# Altium footprint library MEGA.PcbLib: 237 footprints (part 4 of 15)
Each footprint in its own frame and in the unit in brackets; x right, y up, seen from the top. Pads: shape width x height; smd on the part's side, far side on the other; paste and mask are expansions set on the pad; w line width, h text height; cw(c..) or ccw(c..) is an arc to the next point about the centre after c.
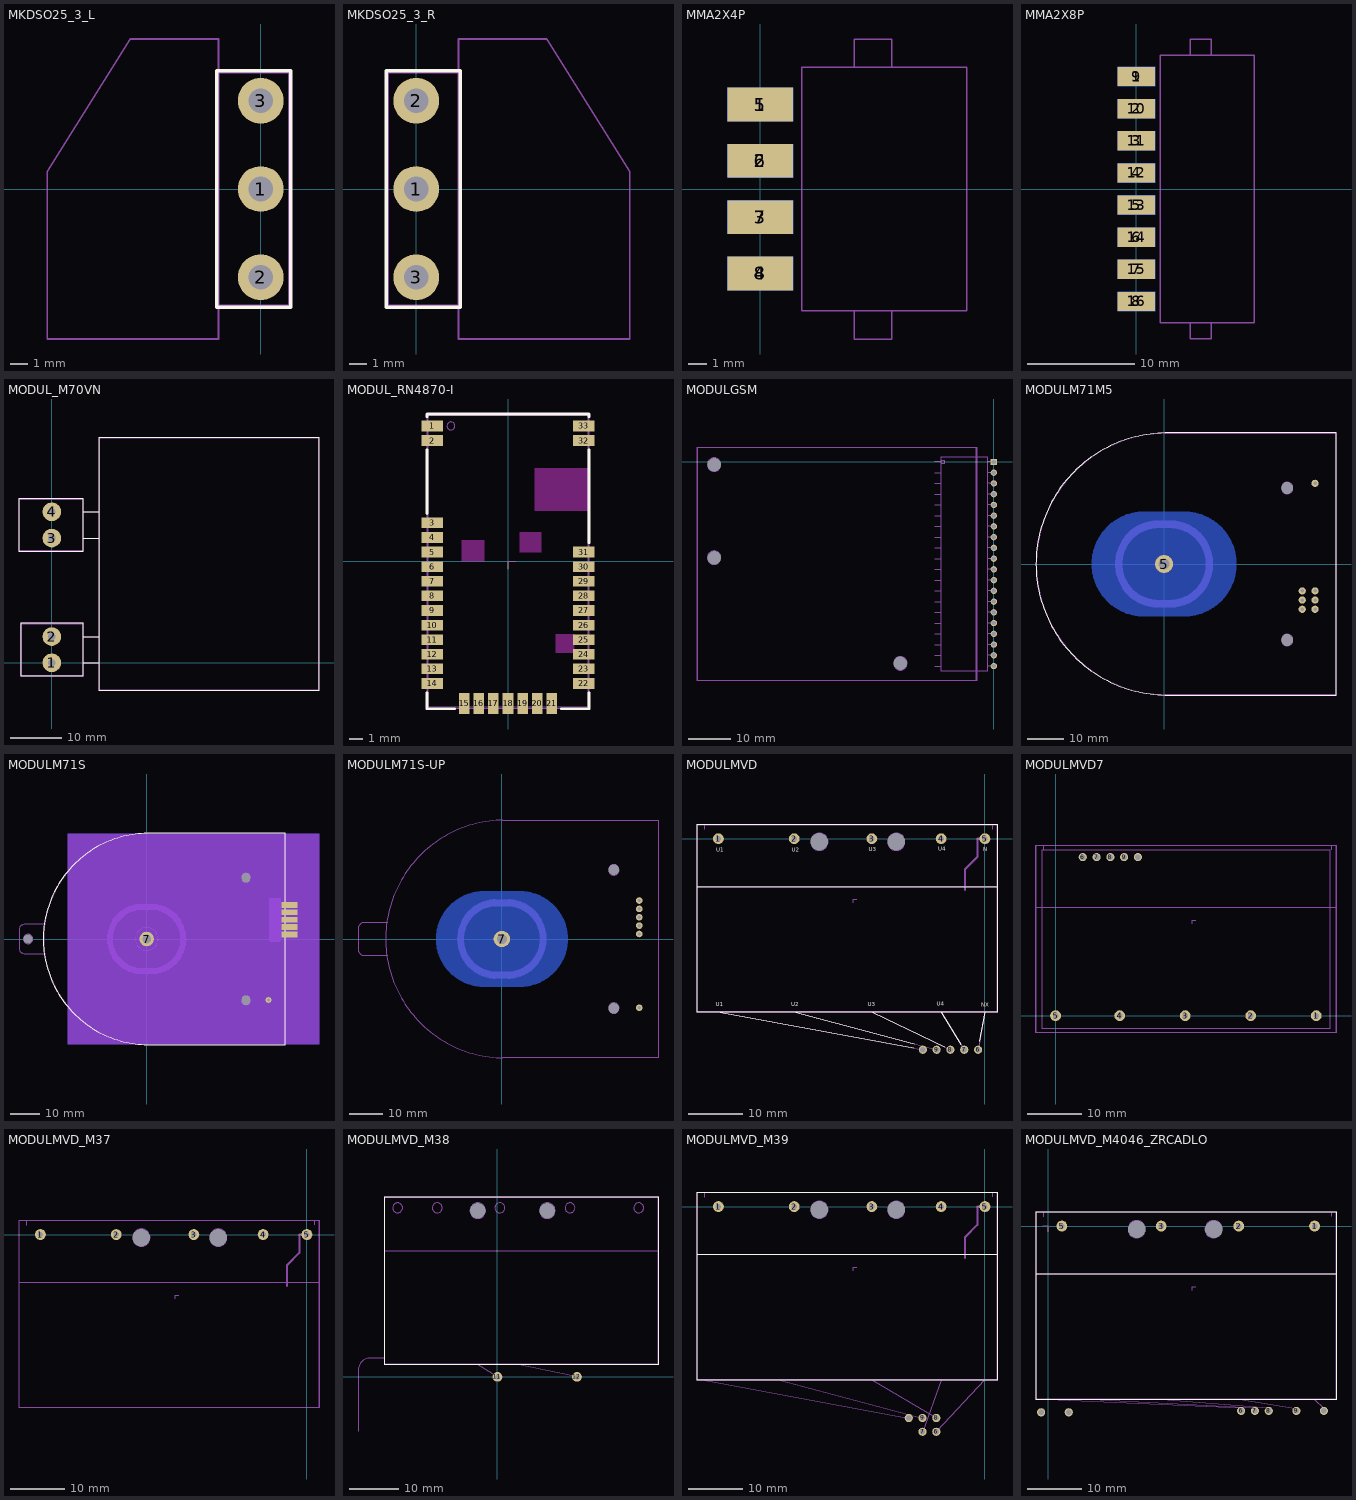
[diagram p3: the footprints below, top view; thin cyan lines are the x and y axes]

## MKDSO25_3_L [mm]
pads (3):
  round 2.6 hole 1.4 mask+0.05: 1(0,0) 2(0,-5) 3(0,5)
Top Overlay:
  lines w0.2: -2.5,-6.7 1.7,-6.7 1.7,6.7 -2.5,6.7 -2.5,-6.7
Mechanical 15:
  circle w0.1: c0,-5 r0.7
  circle w0.1: c0,0 r0.7
  circle w0.1: c0,5 r0.7
  lines w0.1: -2.4,-6.6 -2.4,6.6 ; -2.4,-6.6 1.6,-6.6 1.6,6.6 -2.4,6.6 ; -2.4,-6.6 -2.4,-8.5 -12.1,-8.5 -12.1,1 -7.4,8.5 -2.4,8.5 -2.4,6.6
Mechanical 16:
  circle w0.1: c0,-5 r0.7
  circle w0.1: c0,0 r0.7
  circle w0.1: c0,5 r0.7
Mechanical 20:
  lines w0.1: -2.5,-6.7 1.7,-6.7 1.7,6.7 -2.5,6.7 -2.5,-6.7

## MKDSO25_3_R [mm]
pads (3):
  round 2.6 hole 1.4 mask+0.05: 1(0,0) 2(0,5) 3(0,-5)
Top Overlay:
  lines w0.2: -1.7,-6.7 2.5,-6.7 2.5,6.7 -1.7,6.7 -1.7,-6.7
Mechanical 15:
  circle w0.1: c0,-5 r0.7
  circle w0.1: c0,0 r0.7
  circle w0.1: c0,5 r0.7
  lines w0.1: 2.4,-6.6 2.4,6.6 ; 2.4,-6.6 -1.6,-6.6 -1.6,6.6 2.4,6.6 ; 2.4,-6.6 2.4,-8.5 12.1,-8.5 12.1,1 7.4,8.5 2.4,8.5 2.4,6.6
Mechanical 16:
  circle w0.1: c0,-5 r0.7
  circle w0.1: c0,0 r0.7
  circle w0.1: c0,5 r0.7
Multi-Layer:
  text "Value" at 4.265,-2.325 h0.75
Mechanical 20:
  lines w0.1: -1.7,-6.7 2.5,-6.7 2.5,6.7 -1.7,6.7 -1.7,-6.7

## MMA2X4P [mm]
pads (8):
  rect 3.5x1.8 smd mask+0.05: 1(0,4.5) 2(0,1.5) 3(0,-1.5) 4(0,-4.5)
  rect 3.5x1.8 smd far side mask+0.05: 5(0,4.5) 6(0,1.5) 7(0,-1.5) 8(0,-4.5)
Mechanical 15:
  lines w0.01: 5,-6.5 5,-8 7,-8 7,-6.5 ; 5,6.5 5,8 7,8 7,6.5 ; 2.2,-6.5 11,-6.5 11,6.5 2.2,6.5 2.2,-6.5
  text "1" at 2.956,4.12 h0.75
  text "4" at 2.777,-4.88 h0.75
Mechanical 16:
  lines w0.01: 5,-6.5 5,-8 7,-8 7,-6.5 ; 5,6.5 5,8 7,8 7,6.5 ; 2.2,-6.5 11,-6.5 11,6.5 2.2,6.5 2.2,-6.5
  text "8" at 4.105,-4.88 h0.75
  text "5" at 3.905,4.12 h0.75
Multi-Layer:
  text "Value" at 4.965,-1.78 h0.75

## MMA2X8P [mm]
pads (16):
  rect 3.5x1.8 smd mask+0.05: 1(0,10.5) 2(0,7.5) 3(0,4.5) 4(0,1.5) 5(0,-1.5) 6(0,-4.5) 7(0,-7.5) 8(0,-10.5)
  rect 3.5x1.8 smd far side mask+0.05: 9(0,10.5) 10(0,7.5) 11(0,4.5) 12(0,1.5) 13(0,-1.5) 14(0,-4.5) 15(0,-7.5) 16(0,-10.5)
Mechanical 15:
  lines w0.01: 5,-12.5 5,-14 7,-14 7,-12.5 ; 5,12.5 5,14 7,14 7,12.5 ; 2.2,-12.5 11,-12.5 11,12.5 2.2,12.5 2.2,-12.5
  text "8" at 3.095,-10.78 h0.75
  text "1" at 3.056,10.22 h0.75
Mechanical 16:
  lines w0.01: 5,-12.5 5,-14 7,-14 7,-12.5 ; 5,12.5 5,14 7,14 7,12.5 ; 2.2,-12.5 11,-12.5 11,12.5 2.2,12.5 2.2,-12.5
  text "16" at 4.362,-10.78 h0.75
  text "9" at 3.987,10.22 h0.75

## MODUL_M70VN [mm]
pads (4):
  round 3.6 hole 1.5 mask+0.05: 1(0,0) 2(0,5.08) 3(0,24.13) 4(0,29.21)
Top Overlay:
  lines w0.2: 6.032,0 9.08,0 ; 6.032,5.08 9.08,5.08 ; 6.032,24.13 9.08,24.13 ; 6.032,29.21 9.08,29.21 ; -6.35,21.59 6.032,21.59 6.032,31.75 -6.35,31.75 -6.35,21.59 ; -6.032,-2.54 6.032,-2.54 6.032,7.62 -6.032,7.62 -6.032,-2.54 ; 9.08,-5.271 51.689,-5.271 51.689,43.497 9.08,43.497 9.08,-5.271
Mechanical 15:
  lines w0.1: 5.969,0 9.144,0 ; 5.969,5.08 9.144,5.08 ; 5.969,24.13 9.144,24.13 ; 5.969,29.21 9.144,29.21 ; -6.286,21.653 5.969,21.653 5.969,31.686 -6.286,31.686 -6.286,21.653 ; -5.969,-2.476 5.969,-2.476 5.969,7.556 -5.969,7.556 -5.969,-2.476 ; 9.144,-5.207 51.625,-5.207 51.625,43.434 9.144,43.434 9.144,-5.207
Mechanical 20:
  lines w0.1: -6.032,-2.54 6.032,-2.54 6.032,7.62 -6.032,7.62 -6.032,-2.54

## MODUL_RN4870-I [mm]
pads (33):
  rect 1.6x0.8 smd paste-0.12 mask+0.05: 1(-5.7,10.2) 2(-5.7,9.1) 3(-5.7,2.9) 4(-5.7,1.8) 5(-5.7,0.7) 6(-5.7,-0.4) 7(-5.7,-1.5) 8(-5.7,-2.6) 9(-5.7,-3.7) 10(-5.7,-4.8) 11(-5.7,-5.9) 12(-5.7,-7) 13(-5.7,-8.1) 14(-5.7,-9.2) 22(5.7,-9.2) 23(5.7,-8.1) 24(5.7,-7) 25(5.7,-5.9) 26(5.7,-4.8) 27(5.7,-3.7) 28(5.7,-2.6) 29(5.7,-1.5) 30(5.7,-0.4) 31(5.7,0.7) 32(5.7,9.1) 33(5.7,10.2)
  rect 0.8x1.6 smd paste-0.12 mask+0.05: 15(-3.3,-10.7) 16(-2.2,-10.7) 17(-1.1,-10.7) 18(0,-10.7) 19(1.1,-10.7) 20(2.2,-10.7) 21(3.3,-10.7)
L1-Top Layer keep-out:
  region: -3.5,1.6 -1.8,1.6 -1.8,0 -3.5,0
  region: 2,7 6,7 6,3.8 2,3.8
  region: 0.9,2.2 2.5,2.2 2.5,0.7 0.9,0.7
  region: 3.6,-5.5 5,-5.5 5,-6.9 3.6,-6.9
Top Overlay:
  lines w0.2: -6.1,-9.9 -6.1,-11.1 -4,-11.1 ; -6.1,3.6 -6.1,8.4 ; -6.1,10.9 -6.1,11.1 6.1,11.1 6.1,10.9 ; 4,-11.1 6.1,-11.1 6.1,-9.9 ; 6.1,1.4 6.1,8.4
Mechanical 15:
  circle w0.01: c-4.3,10.2 r0.3
  lines w0.01: -6,-11 6,-11 6,11 -6,11 -6,-11
Multi-Layer:
  text "Value" at -1.165,2.335 h0.75
Mechanical 19:
  lines w0.01: 0,-0.6 0,0 0.635,0
Mechanical 20:
  lines w0.01: -6.1,-11.1 6.1,-11.1 6.1,11.1 -6.1,11.1 -6.1,-11.1

## MODULGSM [mm]
height 9.5
pads (23):
  rect 1.5x1.5 hole 1 mask+0.1: 1(0,0)
  round 1.5 hole 1 mask+0.1: 2(0,-2.54) 3(0,-5.08) 4(0,-7.62) 5(0,-10.16) 6(0,-12.7) 7(0,-15.24) 8(0,-17.78) 9(0,-20.32) 10(0,-22.86) 11(0,-25.4) 12(0,-27.94) 13(0,-30.48) 14(0,-33.02) 15(0,-35.56) 16(0,-38.1) 17(0,-40.64) 18(0,-43.18) 19(0,-45.72) 20(0,-48.26)
  round 0 hole 3.2 unplated: HL1(-66.104,-0.626) HL2(-66.104,-22.625) HL3(-22.104,-47.626)
Mechanical 15:
  circle w0.1: c-66.104,-0.626 r1.6
  circle w0.1: c-66.104,-22.625 r1.6
  circle w0.1: c-22.104,-47.626 r1.6
  lines w0.1: -13.97,-48.26 -12.383,-48.26 ; -13.97,-45.72 -12.383,-45.72 ; -13.97,-43.18 -12.383,-43.18 ; -13.97,-40.64 -12.383,-40.64 ; -13.97,-38.1 -12.383,-38.1 ; -13.97,-35.56 -12.383,-35.56 ; -13.97,-33.02 -12.383,-33.02 ; -13.97,-30.48 -12.383,-30.48 ; -13.97,-27.94 -12.383,-27.94 ; -13.97,-25.4 -12.383,-25.4 ; -13.97,-22.86 -12.383,-22.86 ; -13.97,-20.32 -12.383,-20.32 ; -13.97,-17.78 -12.383,-17.78 ; -13.97,-15.24 -12.383,-15.24 ; -13.97,-12.7 -12.383,-12.7 ; -13.97,-10.16 -12.383,-10.16 ; -13.97,-7.62 -12.383,-7.62 ; -13.97,-5.08 -12.383,-5.08 ; -13.97,-2.54 -12.383,-2.54 ; -13.97,0 -12.383,0 ; -12.383,-0.381 -11.747,-0.381 -11.747,0.381 -12.383,0.381 ; -1.587,-48.26 0,-48.26 ; -1.587,-45.72 0,-45.72 ; -1.587,-43.18 0,-43.18 ; -1.587,-40.64 0,-40.64 ; -1.587,-38.1 0,-38.1 ; -1.587,-35.56 0,-35.56 ; -1.587,-33.02 0,-33.02 ; -1.587,-30.48 0,-30.48 ; -1.587,-27.94 0,-27.94 ; -1.587,-25.4 0,-25.4 ; -1.587,-22.86 0,-22.86 ; -1.587,-20.32 0,-20.32 ; -1.587,-17.78 0,-17.78 ; -1.587,-15.24 0,-15.24 ; -1.587,-12.7 0,-12.7 ; -1.587,-10.16 0,-10.16 ; -1.587,-7.62 0,-7.62 ; -1.587,-5.08 0,-5.08 ; -1.587,-2.54 0,-2.54 ; -1.587,0 0,0 ; -4.127,-49.53 -4.127,1.27 ; -4.127,-49.53 -12.383,-49.53 -12.383,1.27 -4.127,1.27 ; -4.127,-49.53 -1.587,-49.53 -1.587,1.27 -4.127,1.27 ; -4.127,-49.53 -4.127,1.27 ; -70.104,-51.625 -4.104,-51.625 -4.104,3.374 -70.104,3.374 -70.104,-51.625
Mechanical 16:
  circle w0.1: c-66.104,-0.626 r1.6
  circle w0.1: c-66.104,-22.625 r1.6
  circle w0.1: c-22.104,-47.626 r1.6
Mechanical 20:
  lines w0.1: -70.168,-51.689 -4.064,-51.689 -4.064,3.429 -70.168,3.429 -70.168,-51.689

## MODULM71M5 [mm]
pads (10):
  round 2 hole 1 mask+0.05: 1(41.719,22.288) 2(38.163,-7.429) 3(38.163,-9.97) 4(38.163,-12.509) 21(41.719,-7.429) 31(41.719,-9.97) 41(41.719,-12.509)
  round 5 / inner round 3 / far side round 5 hole 3: 5(0,0)
  round 0 hole 3.2 unplated: HL1(34,21) HL2(34,-21)
L2-Botom Layer:
  region: 229 vertices and 0 holes, not listed, extent -20.001,-14.501 20.001,14.501
Top Overlay:
  lines w0.2: 0.298,-36.2 cw(c0.803,0) 0.298,36.2 ; 0.3,-36.2 47.5,-36.2 47.5,36.2 0.3,36.2
Top Solder:
  drawing of 1 lines, arcs and shapes, not listed
Bottom Solder:
  drawing of 1 lines, arcs and shapes, not listed
Mechanical 15:
  circle w0.1: c34,21 r1.6
  circle w0.1: c34,-21 r1.6
  lines w0.1: -2.009,-11.9 cw(c-1.593,0) -1.988,11.9 ; -2,-11.9 2,-11.9 ; -2,11.9 2,11.9 ; 0.3,-36.1 47.4,-36.1 47.4,36.1 0.3,36.1 ; 0.304,-36.1 cw(c0.808,0) 0.304,36.1 ; 1.988,-11.9 ccw(c1.593,0) 2.009,11.9
Mechanical 16:
  circle w0.1: c34,21 r1.6
  circle w0.1: c34,-21 r1.6
  lines w0.1: -2.009,-11.9 cw(c-1.593,0) -1.988,11.9 ; -2,-11.9 2,-11.9 ; -2,11.9 2,11.9 ; 1.988,-11.9 ccw(c1.593,0) 2.009,11.9
  lines w2: -2.011,10.9 ccw(c-1.592,0) -1.992,-10.9 ; -2,-10.9 2,-10.9 ; -2,10.9 2,10.9 ; 1.993,10.9 cw(c1.593,0) 2.012,-10.9
Mechanical 19:
  lines w0.1: -1.016,0 0,0 0,-1.016

## MODULM71S [mm]
pads (10):
  round 2 hole 1 mask+0.05: 1(41.719,-20.892)
  rect 5.5x2 smd mask+0.05: 2(48.959,1.524) 3(48.959,4.064) 4(48.959,6.604) 5(48.959,9.144) 6(48.959,11.684)
  round 5 / inner round 3 / far side round 5 hole 3: 7(0,0)
  round 0 hole 3.2 unplated: HL1(34,21) HL2(34,-21) HL3(-40.6,0)
L1-Top Layer keep-out:
  region: -25,23 25,23 25,-23 -25,-23
L2-Botom Layer:
  region: 229 vertices and 0 holes, not listed, extent -20.001,-14.501 20.001,14.501
L2-Botom Layer keep-out:
  region: -27,36 59,36 59,-36 -27,-36
Top Overlay:
  lines w0.2: 0.298,-36.2 cw(c0.803,0) 0.298,36.2 ; 0.3,-36.2 47.5,-36.2 47.5,36.2 0.3,36.2
Top Solder:
  drawing of 7 lines, arcs and shapes, not listed
Bottom Solder:
  drawing of 1 lines, arcs and shapes, not listed
Mechanical 15:
  circle w0.1: c34,21 r1.6
  circle w0.1: c34,-21 r1.6
  circle w0.1: c-40.6,0 r1.6
  lines w0.1: -43.7,-3 -43.7,3 ; -43.7,-2.999 ccw(c-41.75,-3.05) -41.702,-5 ; -43.7,3.002 cw(c-41.75,3.05) -41.699,5 ; -41.7,-5 -34.7,-5 ; -41.7,5 -34.7,5 ; -2.009,-11.9 cw(c-1.593,0) -1.988,11.9 ; -2,-11.9 2,-11.9 ; -2,11.9 2,11.9 ; 0.3,-36.1 47.4,-36.1 47.4,36.1 0.3,36.1 ; 0.304,-36.1 cw(c0.808,0) 0.304,36.1 ; 1.988,-11.9 ccw(c1.593,0) 2.009,11.9
Mechanical 16:
  circle w0.1: c34,21 r1.6
  circle w0.1: c34,-21 r1.6
  circle w0.1: c-40.6,0 r1.6
  lines w0.1: -2.009,-11.9 cw(c-1.593,0) -1.988,11.9 ; -2,-11.9 2,-11.9 ; -2,11.9 2,11.9 ; 1.988,-11.9 ccw(c1.593,0) 2.009,11.9
  lines w1.2: 43.567,-0.396 43.567,13.604 ; 44.467,-0.396 44.467,13.604 ; 42.567,-0.396 45.467,-0.396 45.467,13.604 42.567,13.604 42.567,-0.396
  lines w2: -2.011,10.9 ccw(c-1.592,0) -1.992,-10.9 ; -2,-10.9 2,-10.9 ; -2,10.9 2,10.9 ; 1.993,10.9 cw(c1.593,0) 2.012,-10.9
Mechanical 19:
  lines w0.1: -1.016,0 0,0 0,-1.016
Mechanical 20:
  circle w0.1: c0,0 r3.9

## MODULM71S-UP [mm]
pads (9):
  round 2 hole 1 mask+0.05: 1(41.719,-20.892) 2(41.719,1.524) 3(41.719,4.064) 4(41.719,6.604) 5(41.719,9.144) 6(41.719,11.684)
  round 5 / inner round 3 / far side round 5 hole 3: 7(0,0)
  round 0 hole 3.2 unplated: HL1(34,21) HL2(34,-21)
L2-Botom Layer:
  region: 229 vertices and 0 holes, not listed, extent -20.001,-14.501 20.001,14.501
Top Solder:
  drawing of 1 lines, arcs and shapes, not listed
Bottom Solder:
  drawing of 1 lines, arcs and shapes, not listed
Mechanical 15:
  circle w0.1: c34,21 r1.6
  circle w0.1: c34,-21 r1.6
  lines w0.1: -43.7,-3 -43.7,3 ; -43.7,-2.999 ccw(c-41.75,-3.05) -41.702,-5 ; -43.7,3.002 cw(c-41.75,3.05) -41.699,5 ; -41.7,-5 -34.7,-5 ; -41.7,5 -34.7,5 ; -2.009,-11.9 cw(c-1.593,0) -1.988,11.9 ; -2,-11.9 2,-11.9 ; -2,11.9 2,11.9 ; 0.3,-36.1 47.4,-36.1 47.4,36.1 0.3,36.1 ; 0.304,-36.1 cw(c0.808,0) 0.304,36.1 ; 1.988,-11.9 ccw(c1.593,0) 2.009,11.9
Mechanical 16:
  circle w0.1: c34,21 r1.6
  circle w0.1: c34,-21 r1.6
  lines w0.1: -2.009,-11.9 cw(c-1.593,0) -1.988,11.9 ; -2,-11.9 2,-11.9 ; -2,11.9 2,11.9 ; 1.988,-11.9 ccw(c1.593,0) 2.009,11.9
  lines w2: -2.011,10.9 ccw(c-1.592,0) -1.992,-10.9 ; -2,-10.9 2,-10.9 ; -2,10.9 2,10.9 ; 1.993,10.9 cw(c1.593,0) 2.012,-10.9
Multi-Layer:
  text "Value" at 23.865,-2.225 h0.75
Mechanical 19:
  lines w0.1: -1.016,0 0,0 0,-1.016

## MODULMVD [mm]
pads (12):
  round 2 hole 1 mask+0.05: 1(-49.085,0) 2(-35.115,0) 3(-20.828,0) 4(-8.064,0) 5(0,0)
  round 1.5 hole 1 mask+0.05: 6(-1.27,-38.862) 7(-3.81,-38.862) 8(-6.35,-38.862) 9(-8.89,-38.862) 10(-11.43,-38.862)
  round 0 hole 3.2 unplated: HL1(-16.319,-0.572) HL2(-30.48,-0.572)
Top Overlay:
  lines w0.2: -53.023,-8.89 2.222,-8.89 ; -48.704,-31.941 -13.144,-38.544 ; -34.861,-31.941 -13.018,-37.782 ; -20.701,-31.941 -7.366,-38.354 ; -8.001,-31.941 -4.445,-37.846 ; -1.016,-37.338 0,-31.941 ; -53.023,-31.941 2.222,-31.941 2.222,2.667 -53.023,2.667 -53.023,-31.941
  text "N" at -0.286,-2.316 h0.75
  text "U4" at -8.622,-2.253 h0.75
  text "U3" at -21.368,-2.316 h0.75
  text "U2" at -35.528,-2.38 h0.75
  text "U1" at -49.465,-2.38 h0.75
  text "U1" at -49.565,-30.891 h0.75
  text "U2" at -35.692,-30.828 h0.75
  text "U3" at -21.595,-30.828 h0.75
  text "U4" at -8.849,-30.764 h0.75
  text "NX" at -0.64,-30.955 h0.75
Mechanical 15:
  circle w0.1: c-16.319,-0.572 r1.6
  circle w0.1: c-30.48,-0.572 r1.6
  lines w0.1: -52.959,-8.89 2.159,-8.89 ; -49.085,-31.877 -11.43,-38.862 ; -35.115,-31.877 -8.89,-38.862 ; -20.828,-31.877 -6.35,-38.862 ; -8.064,-31.877 -3.81,-38.862 ; -1.27,-38.862 0,-31.877 ; -52.959,-31.877 2.159,-31.877 2.159,2.603 -52.959,2.603 -52.959,-31.877
  text "U1" at -49.515,-2.139 h0.75
  text "N" at -0.236,-1.949 h0.75
  text "NX" at -0.59,-30.905 h0.75
  text "U4" at -8.799,-30.714 h0.75
  text "U4" at -8.672,-1.949 h0.75
  text "U3" at -21.418,-2.076 h0.75
  text "U3" at -21.545,-30.778 h0.75
  text "U2" at -35.642,-30.778 h0.75
  text "U2" at -35.578,-2.076 h0.75
  text "U1" at -49.515,-30.841 h0.75
Mechanical 16:
  circle w0.1: c-16.319,-0.572 r1.6
  circle w0.1: c-30.48,-0.572 r1.6
Multi-Layer:
  text "Value" at -25.492,-12.045 h0.75
Mechanical 19:
  lines w0.1: -51.689,1.714 -51.689,2.603 ; -24.257,-11.811 -24.257,-11.176 -23.622,-11.176 ; 1.333,1.778 1.333,2.603
  lines w0.4: -3.683,-9.461 -3.683,-5.651 -1.397,-3.365 -1.397,0 0,0
Mechanical 20:
  lines w0.1: -53.023,-31.941 2.222,-31.941 2.222,2.667 -53.023,2.667 -53.023,-31.941

## MODULMVD7 [mm]
pads (10):
  round 2 hole 1 mask+0.05: 1(48.006,0) 2(35.941,0) 3(23.876,0) 4(11.811,0) 5(0,0)
  round 1.5 hole 1 mask+0.05: 6(5.016,29.21) 7(7.556,29.21) 8(10.096,29.21) 9(12.636,29.21) 10(15.176,29.21)
Mechanical 15:
  lines w0.1: -3.535,19.866 51.583,19.866 ; -3.535,-3.121 51.583,-3.121 51.583,31.359 -3.535,31.359 -3.535,-3.121
  text "U1" at 47.678,1.435 h0.75
  text "N" at -0.201,1.628 h0.75
  text "NX" at 4.362,26.67 h0.75
  text "U4" at 6.919,26.67 h0.75
  text "U4" at 11.365,1.499 h0.75
  text "U3" at 23.449,1.563 h0.75
  text "U3" at 9.635,26.629 h0.75
  text "U2" at 12.17,26.589 h0.75
  text "U2" at 35.451,1.563 h0.75
  text "U1" at 14.947,26.629 h0.75
Multi-Layer:
  text "Value" at 23.932,16.71 h0.75
Mechanical 19:
  lines w0.1: -2.265,30.47 -2.265,31.359 ; 25.167,16.945 25.167,17.58 25.802,17.58 ; 50.758,30.534 50.758,31.359 ; -2.476,-2.413 50.524,-2.413 50.524,30.587 -2.476,30.587 -2.476,-2.413
Mechanical 20:
  lines w0.1: -3.598,-3.185 51.647,-3.185 51.647,31.423 -3.598,31.423 -3.598,-3.185

## MODULMVD_M37 [mm]
pads (7):
  round 2 hole 1 mask+0.05: 1(-49.085,0) 2(-35.115,0) 3(-20.828,0) 4(-8.064,0) 5(0,0)
  round 0 hole 3.2 unplated: HL1(-16.319,-0.572) HL2(-30.48,-0.572)
Mechanical 15:
  circle w0.1: c-16.319,-0.572 r1.6
  circle w0.1: c-30.48,-0.572 r1.6
  lines w0.1: -52.959,-8.89 2.159,-8.89 ; -52.959,-31.877 2.159,-31.877 2.159,2.603 -52.959,2.603 -52.959,-31.877
  text "U1" at -49.515,-2.139 h0.75
  text "N" at -0.236,-1.949 h0.75
  text "NX" at 0.497,-22.525 h0.75
  text "U4" at 0.479,-24.025 h0.75
  text "U4" at -8.672,-1.949 h0.75
  text "U3" at -21.418,-2.076 h0.75
  text "U3" at 0.397,-25.325 h0.75
  text "U2" at 0.397,-26.925 h0.75
  text "U2" at -35.578,-2.076 h0.75
  text "U1" at 0.557,-28.425 h0.75
  text "L" at -31.214,-31.025 h0.75
  text "SIT" at -26.062,-29.225 h0.75
  text "N" at -19.75,-31.025 h0.75
Mechanical 16:
  circle w0.1: c-16.319,-0.572 r1.6
  circle w0.1: c-30.48,-0.572 r1.6
Multi-Layer:
  text "Value" at -25.492,-12.045 h0.75
Mechanical 19:
  lines w0.1: -51.689,1.714 -51.689,2.603 ; -24.257,-11.811 -24.257,-11.176 -23.622,-11.176 ; 1.333,1.778 1.333,2.603
  lines w0.4: -3.683,-9.461 -3.683,-5.651 -1.397,-3.365 -1.397,0 0,0
Mechanical 20:
  lines w0.1: -53.023,-31.941 2.222,-31.941 2.222,2.667 -53.023,2.667 -53.023,-31.941

## MODULMVD_M38 [mm]
pads (4):
  round 2 hole 1 mask+0.05: 11(0,0) 12(16.192,0)
  round 0 hole 3.2 unplated: HL1(10.16,33.846) HL2(-4,33.846)
Top Overlay:
  lines w0.2: -22.987,2.476 32.703,2.476 32.703,36.639 -22.987,36.639 -22.987,2.476
Mechanical 15:
  circle w0.01: c10.16,33.846 r1.6
  circle w0.01: c-4,33.846 r1.6
  circle w0.01: c-20.32,34.417 r1.016
  circle w0.01: c-12.255,34.417 r1.016
  circle w0.01: c0.508,34.417 r1.016
  circle w0.01: c14.795,34.417 r1.016
  circle w0.01: c28.765,34.417 r1.016
  lines w0.01: -28.384,-11.049 -28.384,1.27 ; -28.384,1.267 cw(c-25.876,1.302) -25.846,3.81 ; -25.845,3.81 -22.924,3.81 ; -22.924,25.527 32.639,25.527 ; -4.127,2.54 0,0 ; 3.873,2.54 16.192,0 ; -22.924,2.54 32.639,2.54 32.639,36.576 -22.924,36.576 -22.924,2.54
  text "N" at -20.506,31.942 h0.75
  text "L" at 17.629,1.081 h0.75
  text "N" at 1.147,0.954 h0.75
  text "U1" at 28.259,32.005 h0.75
  text "U2" at 14.319,32.005 h0.75
  text "U3" at 0.159,31.751 h0.75
  text "U4" at -12.877,32.005 h0.75
Mechanical 16:
  circle w0.01: c10.16,33.846 r1.6
  circle w0.01: c-4,33.846 r1.6
Multi-Layer:
  text "Value" at 4.588,22.417 h0.75
Mechanical 20:
  lines w0.01: -22.987,2.476 32.703,2.476 32.703,36.639 -22.987,36.639 -22.987,2.476

## MODULMVD_M39 [mm]
pads (12):
  round 2 hole 1 mask+0.05: 1(-49.085,0) 2(-35.115,0) 3(-20.828,0) 4(-8.064,0) 5(0,0)
  round 1.5 hole 1 mask+0.05: 6(-8.954,-41.465) 7(-11.493,-41.465) 8(-8.954,-38.925) 9(-11.493,-38.925) 10(-14.034,-38.925)
  round 0 hole 3.2 unplated: HL1(-16.319,-0.572) HL2(-30.48,-0.572)
Top Overlay:
  lines w0.2: -53.023,-8.89 2.222,-8.89 ; -53.023,-31.941 2.222,-31.941 2.222,2.667 -53.023,2.667 -53.023,-31.941
Mechanical 15:
  circle w0.1: c-16.319,-0.572 r1.6
  circle w0.1: c-30.48,-0.572 r1.6
  lines w0.1: -52.959,-8.89 2.159,-8.89 ; -51.639,-31.95 -13.984,-38.935 ; -37.675,-31.952 -11.45,-38.937 ; -20.828,-31.877 -8.954,-38.925 ; -11.493,-41.465 -8.064,-31.877 ; -8.954,-41.465 0,-31.877 ; -52.959,-31.877 2.159,-31.877 2.159,2.603 -52.959,2.603 -52.959,-31.877
  text "U1" at -49.515,-2.139 h0.75
  text "U1" at -49.515,-30.841 h0.75
  text "U2" at -35.578,-2.076 h0.75
  text "U2" at -35.642,-30.778 h0.75
  text "U3" at -21.545,-30.778 h0.75
  text "U3" at -21.418,-2.076 h0.75
  text "U4" at -8.672,-1.949 h0.75
  text "U4" at -8.799,-30.714 h0.75
  text "NX" at -0.59,-30.905 h0.75
  text "N" at -0.236,-1.949 h0.75
Mechanical 16:
  circle w0.1: c-16.319,-0.572 r1.6
  circle w0.1: c-30.48,-0.572 r1.6
Mechanical 19:
  lines w0.1: -51.689,1.714 -51.689,2.603 ; -24.257,-11.811 -24.257,-11.176 -23.622,-11.176 ; 1.333,1.778 1.333,2.603
  lines w0.4: -3.683,-9.461 -3.683,-5.651 -1.397,-3.365 -1.397,0 0,0
Mechanical 20:
  lines w0.1: -53.023,-31.941 2.222,-31.941 2.222,2.667 -53.023,2.667 -53.023,-31.941

## MODULMVD_M4046_ZRCADLO [mm]
height 20.5
pads (13):
  round 2 hole 1 mask+0.05: 1(49.085,0) 2(35.115,0) 3(20.828,0) 5(2.54,0)
  round 1.5 hole 1 mask+0.05: 6(35.56,-34.036) 7(38.1,-34.036) 8(40.64,-34.036) 9(45.72,-34.036) 10(50.8,-34.036) 11(3.81,-34.29) 12(-1.27,-34.29)
  round 0 hole 3.2 unplated: HL1(16.319,-0.572) HL2(30.48,-0.572)
Top Overlay:
  lines w0.2: -2.222,-8.89 53.023,-8.89 ; -2.222,-31.941 53.023,-31.941 53.023,2.667 -2.222,2.667 -2.222,-31.941
Mechanical 15:
  circle w0.1: c16.319,-0.572 r1.6
  circle w0.1: c30.48,-0.572 r1.6
  lines w0.1: -2.159,-8.89 52.959,-8.89 ; -0.254,-32.004 35.56,-33.528 ; 7.874,-32.004 38.1,-33.528 ; 20.828,-32.004 40.64,-33.528 ; 35.286,-31.906 45.466,-33.528 ; 49.152,-31.967 50.63,-33.444 ; -2.159,-31.877 52.959,-31.877 52.959,2.603 -2.159,2.603 -2.159,-31.877
  text "U1" at 48.833,-1.949 h0.75
  text "U1" at 48.593,-30.841 h0.75
  text "U2" at 34.462,-2.076 h0.75
  text "U2" at 34.462,-30.778 h0.75
  text "U3" at 20.175,-30.778 h0.75
  text "U3" at 20.175,-2.076 h0.75
  text "U4" at 7.393,-30.714 h0.75
  text "NX" at -0.653,-30.905 h0.75
  text "N" at 2.35,-2.325 h0.75
Mechanical 16:
  circle w0.1: c16.319,-0.572 r1.6
  circle w0.1: c30.48,-0.572 r1.6
Mechanical 19:
  lines w0.1: -1,0 0,0 0,-1 ; -0.889,1.714 -0.889,2.603 ; 26.543,-11.811 26.543,-11.176 27.178,-11.176 ; 52.133,1.778 52.133,2.603
Mechanical 20:
  lines w0.1: -2.222,-31.941 53.023,-31.941 53.023,2.667 -2.222,2.667 -2.222,-31.941